# Altium schematic symbol library BH-49A-5-T-BK.SchLib: 1 symbol
Pins are listed as number, name and electrical type; pins without a type are passive.

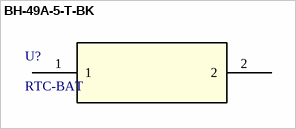
[diagram p0: symbol BH-49A-5-T-BK]

## BH-49A-5-T-BK
designator U?, comment RTC-BAT
Battery Holder CR2032; Mfr_Name: ADAM TECHNOLOGIES INC; Manufacturer: Adam Equipment; Manufacturer Part Number: BH-49A-5-T-BK; RefDes: RefDes; Type: Type; Supplier: Digikey; Supplier Part Number: 2057-BH-49A-5-T-BK-ND; RoHS: No; Stock: 1546; Pricing: 1=0.71, 10=0.589, 50=0.5168, 100=0.4886, 300=0.44707, 500=0.429, 1000=0.40562, 2500=0.37666, 5000=0.35614 (USD)
footprint BH-49A-5-T-BK_ADM
pins: 1, 2